# Altium integrated library 单片机系统库.IntLib: 16 symbols
Pins are listed as number, name and electrical type; pins without a type are passive.

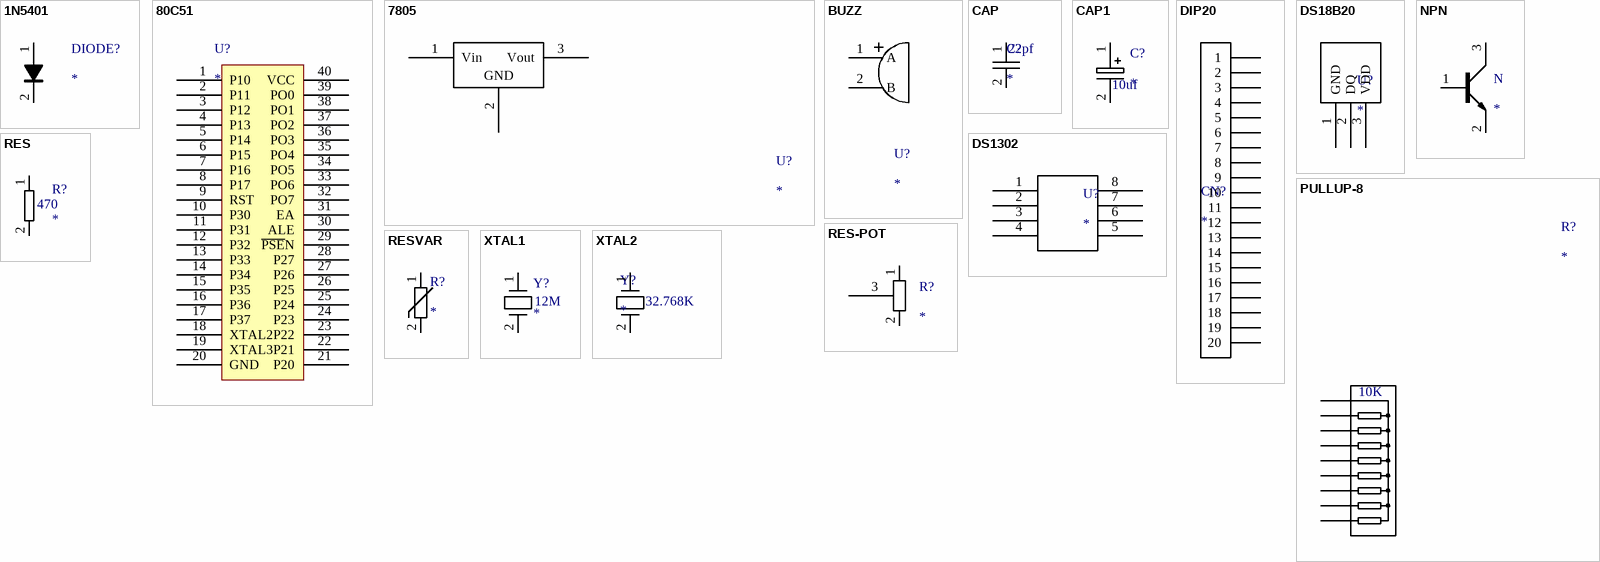
[diagram p0: symbols 1N5401 to XTAL2]

## 1N5401
designator DIODE?
footprint IN5401
pins: 1 A, 2 K

## 80C51
designator U?
footprint 80C51
pins: 1 P10, 2 P11, 3 P12, 4 P13, 5 P14, 6 P15, 7 P16, 8 P17, 9 RST, 10 P30, 11 P31, 12 P32, 13 P33, 14 P34, 15 P35, 16 P36, 17 P37, 18 XTAL2, 19 XTAL3, 20 GND, 21 P20, 22 P21, 23 P22, 24 P23, 25 P24, 26 P25, 27 P26, 28 P27, 29 ~{PSE}N, 30 ALE, 31 EA, 32 PO7, 33 PO6, 34 PO5, 35 PO4, 36 PO3, 37 PO2, 38 PO1, 39 PO0, 40 VCC

## 7805
designator U?
footprint 7805
pins: 1 Vin, 2 GND, 3 Vout

## BUZZ
designator U?
footprint BUZZ
pins: 1 A, 2 B

## CAP
designator C?
footprint CAP
pins: 1, 2
text: 22pf

## CAP1
designator C?
footprint Cap1
pins: 1, 2
text: 10uf

## DIP20
designator CN?
footprint DIP20
pins: 1, 2, 3, 4, 5, 6, 7, 8, 9, 10, 11, 12, 13, 14, 15, 16, 17, 18, 19, 20

## DS18B20
designator U?
footprint DS18B20
pins: 1 GND, 2 DQ, 3 VDD

## DS1302
designator U?
footprint DS1302
pins: 1, 2, 3, 4, 5, 6, 7, 8

## NPN
designator N
footprint NPN
pins: 1 B, 2 E, 3 C

## PULLUP-8
designator R?
footprint PULLUP-8
pins: 1 COM, 2 R1, 3 R2, 4 R3, 5 R4, 6 R5, 7 R6, 8 R7, 9 R8
text: 10K

## RES
designator R?
footprint RES
pins: 1, 2
text: 470

## RES-POT
designator R?
footprint RES-POT
pins: 1, 2, 3

## RESVAR
designator R?
footprint RESAVAR
pins: 1, 2

## XTAL1
designator Y?
footprint XTAL1
pins: 1, 2
text: 12M

## XTAL2
designator Y?
footprint XTAL2
pins: 1, 2
text: 32.768K